# Altium footprint library 60V_Ind.PcbLib: 4 footprints
Each footprint in its own frame and in the unit in brackets; x right, y up, seen from the top. Pads: shape width x height; smd on the part's side, far side on the other; paste and mask are expansions set on the pad; w line width, h text height; cw(c..) or ccw(c..) is an arc to the next point about the centre after c.
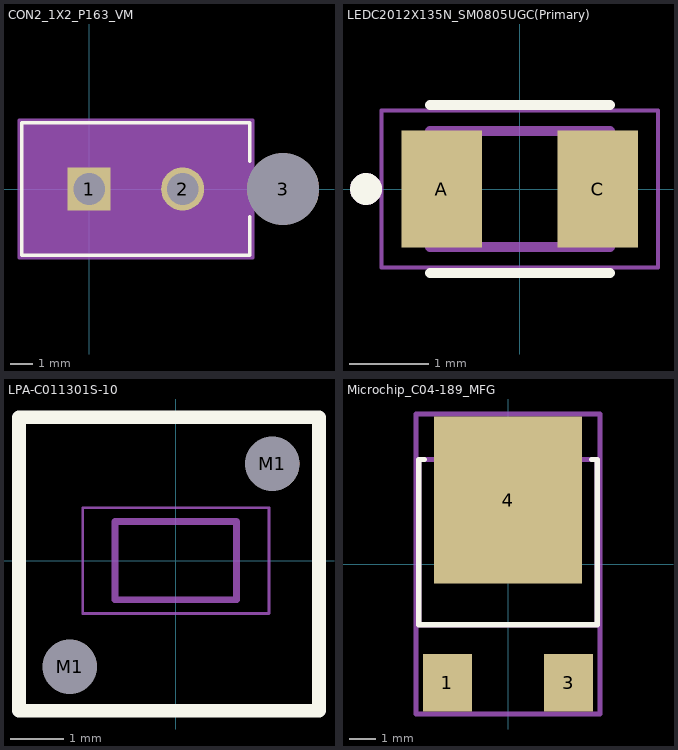
[diagram p0: the footprints below, top view; thin cyan lines are the x and y axes]

## CON2_1X2_P163_VM [mil]
pads (3):
  rect 75x75 hole 55: 1(0,0)
  round 75 hole 55: 2(162.99,0)
  round 125 hole 125 unplated: 3(338,0)
Top Overlay:
  lines w6: 280,-48.49 280,-115 -117,-115 -117,115 280,115 280,48.49
Top Component Outline:
  lines w6: -122,-120 -122,120 285,120 285,-120 -122,-120
Top Courtyard:
  region: 285,120 -122,120 -122,-120 285,-120
3D body: height 10, standoff 0, extent 0,0 10,10
3D body "c-1-770872-0-h-3d.stp": height 566.5, standoff -168, extent -159.49,-139.99 379.51,110.01

## LEDC2012X135N_SM0805UGC(Primary) [mm]
pads (2):
  rect 1.01x1.47 smd: A(-0.98,0) C(0.98,0)
Top Overlay:
  circle w0.2: c-1.932,0 r0.1
  lines w0.127: -1.13,-1.055 1.13,-1.055 ; -1.13,1.055 1.13,1.055
Top 3D Body:
  circle w0.2: c-1.932,0 r0.1
  circle w0.2: c-1.932,0 r0.1
  lines w0.127: -1.13,-0.73 1.13,-0.73 ; -1.13,-0.73 -1.13,0.73 ; -1.13,-0.73 1.13,-0.73 ; -1.13,-0.73 -1.13,0.73 ; -1.13,0.73 1.13,0.73 ; -1.13,0.73 1.13,0.73 ; 1.13,-0.73 1.13,0.73 ; 1.13,-0.73 1.13,0.73
Bottom Component Outline:
  lines w0.05: -1.735,-0.985 -1.735,0.985 1.735,0.985 1.735,-0.985 -1.735,-0.985
3D body "SM0805XXC.STEP": height 1.12, standoff 0.03, extent -1.003,-0.622 1.003,0.622

## LPA-C011301S-10 [mm]
pads (2):
  round 1 hole 1.016 unplated paste-2.54 mask-2.54: M1(-1.973,-1.975) M1(1.8,1.8)
Top Overlay:
  lines w0.254: -2.921,-2.794 -2.921,2.667 2.667,2.667 2.667,-2.794 -2.921,-2.794
Top 3D Body:
  lines w0.127: -1.13,-0.73 1.13,-0.73 ; -1.13,-0.73 -1.13,0.73 ; -1.13,-0.73 1.13,-0.73 ; -1.13,-0.73 -1.13,0.73 ; -1.13,0.73 1.13,0.73 ; -1.13,0.73 1.13,0.73 ; 1.13,-0.73 1.13,0.73 ; 1.13,-0.73 1.13,0.73
Bottom Component Outline:
  lines w0.05: -1.735,-0.985 -1.735,0.985 1.735,0.985 1.735,-0.985 -1.735,-0.985
3D body "LPA-C011301S-10.STEP": height 14.65, standoff -2.35, extent -2.632,-2.628 2.448,2.452

## Microchip_C04-189_MFG [mil]
pads (3):
  rect 73x85 smd paste+0 mask+0: 1(-90,-176.25) 3(90,-176.25)
  rect 219x248 smd paste+0 mask+0: 4(0,94.75)
Top Overlay:
  lines w7.87: -124.26,155 -132.5,155 -132.5,-90 132.5,-90 132.5,155 124.26,155
Mechanical 10:
  lines w7.87: -136.44,-222.69 136.44,-222.69 136.44,222.69 -136.44,222.69 -136.44,-222.69
  text ".Designator" at 0,0 h39.37
Mechanical 12:
  lines w7.87: -132.5,-90 132.5,-90 132.5,155 -132.5,155 -132.5,-90
Mechanical 15:
  lines w3.94: -19.68,0 19.68,0 ; 0,-19.68 0,19.68
  lines w7.87: -136.44,-222.69 136.44,-222.69 136.44,222.69 -136.44,222.69 -136.44,-222.69
3D body "Trans_Microchip_LR8K4-G_eec.STEP": height 10, standoff 0, extent -136.44,-222.69 136.44,222.69